# Altium integrated library MAX14930DASE&plus_.IntLib: 2 symbols
Pins are listed as number, name and electrical type; pins without a type are passive.

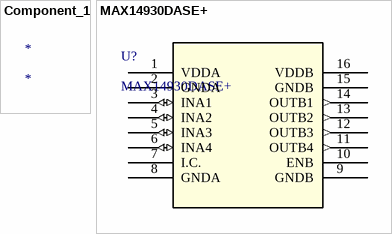
[diagram p0: symbols Component_1 to MAX14930DASE+]

## Component_1
designator *

## MAX14930DASE+
designator U?
No Description Available; Mfr_Name: Maxim Integrated Products; Copyright: Copyright (C) 2022 Ultra Librarian. All rights reserved.; Manufacturer_Part_Number: MAX14930DASE+; RefDes: RefDes; Type: DEV
footprint 21-0041_S16+1_MXM
pins: 1 VDDA (power), 2 GNDA, 3 INA1 (io), 4 INA2 (io), 5 INA3 (io), 6 INA4 (io), 7 I.C., 8 GNDA, 9 GNDB, 10 ENB, 11 OUTB4 (out), 12 OUTB3 (out), 13 OUTB2 (out), 14 OUTB1 (out), 15 GNDB, 16 VDDB (power)